# EAGLE library part ESP-WROOM-02U (library SFM-Project)
Module: WiFi; GPIO, I2C, I2S, PWM, SDIO, SPI, UART; U.FL; 2.7÷3.6VDC
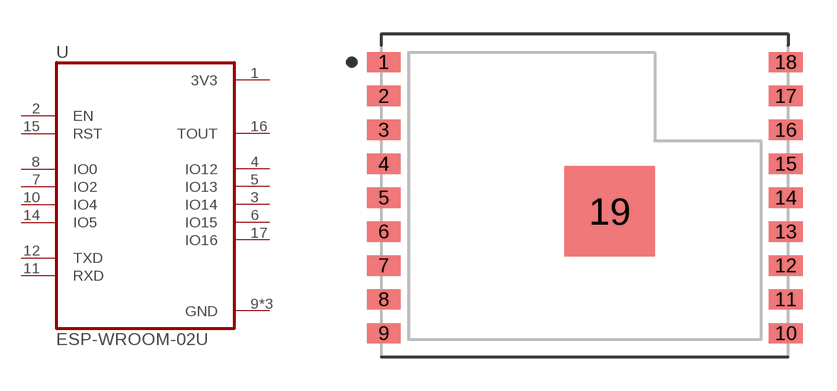
[diagram p1: symbol with the pads of MODULE_ESP-WROOM-02U; footprint MODULE_ESP-WROOM-02U]

Designator prefix U

## ESP-WROOM-02U (AVAILABILITY: Unavailable; DESCRIPTION: WiFi 802.11b/g/n Transceiver Module 2.4GHz ~ 2.5GHz Integrated, Chip + IPEX Surface Mount; MF: Espressif Systems; MP: ESP-WROOM-02U; PACKAGE: SMD-18 Espressif Systems; PRICE: None)  [MODULE_ESP-WROOM-02U]
1  3V3  pwr
2  EN  in
3  IO14
4  IO12
5  IO13
6  IO15
7  IO2
8  IO0
9  GND  pwr
10  IO4
11  RXD
12  TXD
13  GND  pwr
14  IO5
15  RST  in
16  TOUT
17  IO16
18  GND  pwr

## Footprint MODULE_ESP-WROOM-02U (pad centres in mm)
Front Face Top
smd 1.485 x 0.9: 1 -8.893,5.9; 2 -8.893,4.4; 3 -8.893,2.9; 4 -8.893,1.4; 5 -8.893,-0.1; 6 -8.893,-1.6; 7 -8.893,-3.1; 8 -8.893,-4.6; 9 -8.893,-6.1; 10 8.893,-6.1; 11 8.893,-4.6; 12 8.893,-3.1; 13 8.893,-1.6; 14 8.893,-0.1; 15 8.893,1.4; 16 8.893,2.9; 17 8.893,4.4; 18 8.893,5.9
smd 4 x 4: 19 1.1,-0.7